# EAGLE library part XIO3130ZHC (library Xio31307hc)
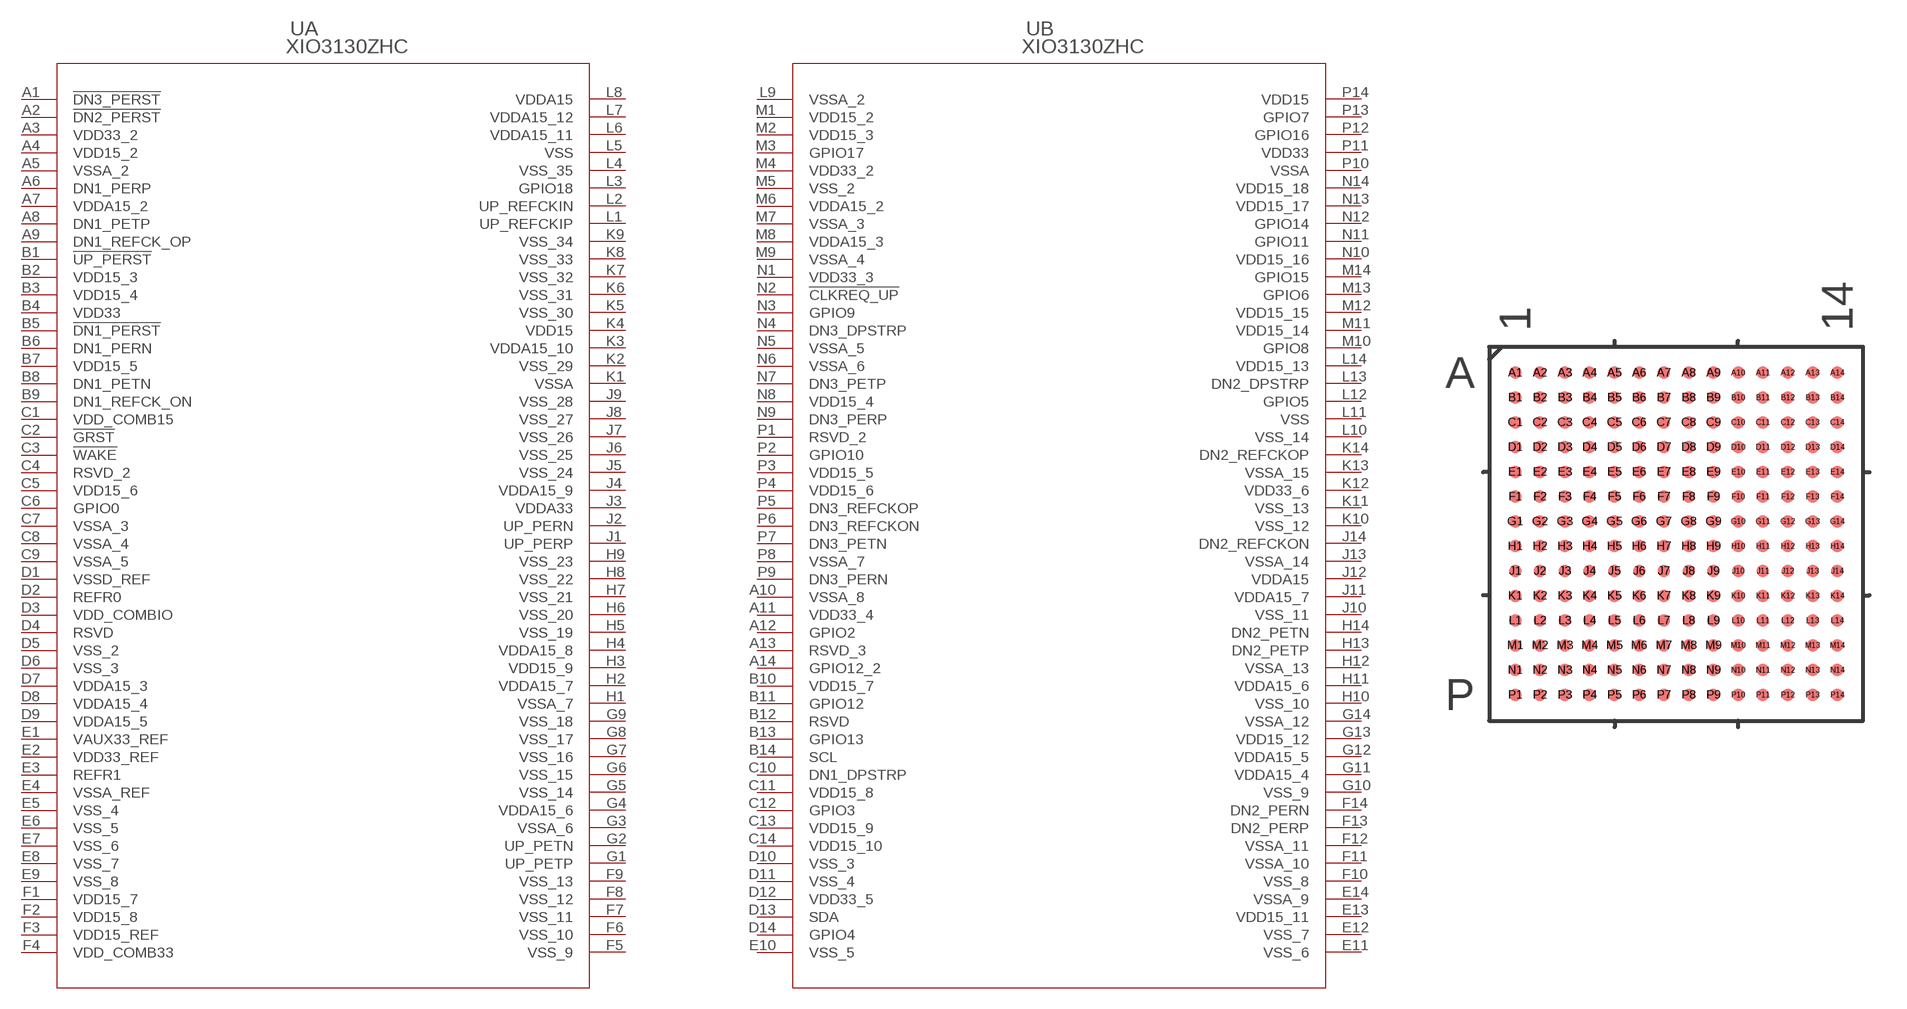
[diagram p0: symbol with the pads of ZHC196; footprint ZHC196]

Designator prefix U; gates A=XIO3130_ZHC_196_A B=XIO3130_ZHC_196_B

## XIO3130ZHC (DATASHEET_URL: http://www.ti.com/lit/gpn/XIO3130; DESCRIPTION: x1 PCI Express 4-Port 4-Lane Packet Switch; FAMILY_NAME: PCIE SWITCH; GENERIC_PART_NUMBER: XIO3130; INDUSTRY_STD_PKG_TYPE: BGA MICROSTAR; MANUFACTURER: Texas Instruments; MANUFACTURER_PART_NUMBER: XIO3130ZHC; PACKAGE_DESIGNATOR: ZHC; PIN_COUNT: 196; VENDOR: Texas Instruments)  [ZHC196]
A1  A:!DN3_PERST  out
A2  A:!DN2_PERST  out
A3  A:VDD33_2  pwr
A4  A:VDD15_2  pwr
A5  A:VSSA_2  pwr
A6  A:DN1_PERP  pas
A7  A:VDDA15_2  pwr
A8  A:DN1_PETP  pas
A9  A:DN1_REFCK_OP  out
A10  B:VSSA_8  pwr
A11  B:VDD33_4  pwr
A12  B:GPIO2
A13  B:RSVD_3  nc
A14  B:GPIO12_2
B1  A:!UP_PERST  in
B2  A:VDD15_3  pwr
B3  A:VDD15_4  pwr
B4  A:VDD33  pwr
B5  A:!DN1_PERST  out
B6  A:DN1_PERN  pas
B7  A:VDD15_5  pwr
B8  A:DN1_PETN  pas
B9  A:DN1_REFCK_ON  out
B10  B:VDD15_7  pwr
B11  B:GPIO12
B12  B:RSVD  nc
B13  B:GPIO13
B14  B:SCL  out
C1  A:VDD_COMB15  pwr
C2  A:!GRST  in
C3  A:!WAKE  pas
C4  A:RSVD_2  nc
C5  A:VDD15_6  pwr
C6  A:GPIO0
C7  A:VSSA_3  pwr
C8  A:VSSA_4  pwr
C9  A:VSSA_5  pwr
C10  B:DN1_DPSTRP  in
C11  B:VDD15_8  pwr
C12  B:GPIO3
C13  B:VDD15_9  pwr
C14  B:VDD15_10  pwr
D1  A:VSSD_REF  pwr
D2  A:REFR0  pas
D3  A:VDD_COMBIO  pwr
D4  A:RSVD  nc
D5  A:VSS_2  pwr
D6  A:VSS_3  pwr
D7  A:VDDA15_3  pwr
D8  A:VDDA15_4  pwr
D9  A:VDDA15_5  pwr
D10  B:VSS_3  pwr
D11  B:VSS_4  pwr
D12  B:VDD33_5  pwr
D13  B:SDA
D14  B:GPIO4
E1  A:VAUX33_REF  pwr
E2  A:VDD33_REF  pwr
E3  A:REFR1  pas
E4  A:VSSA_REF  pwr
E5  A:VSS_4  pwr
E6  A:VSS_5  pwr
E7  A:VSS_6  pwr
E8  A:VSS_7  pwr
E9  A:VSS_8  pwr
E10  B:VSS_5  pwr
E11  B:VSS_6  pwr
E12  B:VSS_7  pwr
E13  B:VDD15_11  pwr
E14  B:VSSA_9  pwr
F1  A:VDD15_7  pwr
F2  A:VDD15_8  pwr
F3  A:VDD15_REF  pwr
F4  A:VDD_COMB33  pwr
F5  A:VSS_9  pwr
F6  A:VSS_10  pwr
F7  A:VSS_11  pwr
F8  A:VSS_12  pwr
F9  A:VSS_13  pwr
F10  B:VSS_8  pwr
F11  B:VSSA_10  pwr
F12  B:VSSA_11  pwr
F13  B:DN2_PERP  pas
F14  B:DN2_PERN  pas
G1  A:UP_PETP  pas
G2  A:UP_PETN  pas
G3  A:VSSA_6  pwr
G4  A:VDDA15_6  pwr
G5  A:VSS_14  pwr
G6  A:VSS_15  pwr
G7  A:VSS_16  pwr
G8  A:VSS_17  pwr
G9  A:VSS_18  pwr
G10  B:VSS_9  pwr
G11  B:VDDA15_4  pwr
G12  B:VDDA15_5  pwr
G13  B:VDD15_12  pwr
G14  B:VSSA_12  pwr
H1  A:VSSA_7  pwr
H2  A:VDDA15_7  pwr
H3  A:VDD15_9  pwr
H4  A:VDDA15_8  pwr
H5  A:VSS_19  pwr
H6  A:VSS_20  pwr
H7  A:VSS_21  pwr
H8  A:VSS_22  pwr
H9  A:VSS_23  pwr
H10  B:VSS_10  pwr
H11  B:VDDA15_6  pwr
H12  B:VSSA_13  pwr
H13  B:DN2_PETP  pas
H14  B:DN2_PETN  pas
J1  A:UP_PERP  pas
J2  A:UP_PERN  pas
J3  A:VDDA33  pwr
J4  A:VDDA15_9  pwr
J5  A:VSS_24  pwr
J6  A:VSS_25  pwr
J7  A:VSS_26  pwr
J8  A:VSS_27  pwr
J9  A:VSS_28  pwr
J10  B:VSS_11  pwr
J11  B:VDDA15_7  pwr
J12  B:VDDA15  pwr
J13  B:VSSA_14  pwr
J14  B:DN2_REFCKON  out
K1  A:VSSA  pwr
K2  A:VSS_29  pwr
K3  A:VDDA15_10  pwr
K4  A:VDD15  pwr
K5  A:VSS_30  pwr
K6  A:VSS_31  pwr
K7  A:VSS_32  pwr
K8  A:VSS_33  pwr
K9  A:VSS_34  pwr
K10  B:VSS_12  pwr
K11  B:VSS_13  pwr
K12  B:VDD33_6  pwr
K13  B:VSSA_15  pwr
K14  B:DN2_REFCKOP  out
L1  A:UP_REFCKIP  in
L2  A:UP_REFCKIN  in
L3  A:GPIO18
L4  A:VSS_35  pwr
L5  A:VSS  pwr
L6  A:VDDA15_11  pwr
L7  A:VDDA15_12  pwr
L8  A:VDDA15  pwr
L9  B:VSSA_2  pwr
L10  B:VSS_14  pwr
L11  B:VSS  pwr
L12  B:GPIO5
L13  B:DN2_DPSTRP  in
L14  B:VDD15_13  pwr
M1  B:VDD15_2  pwr
M2  B:VDD15_3  pwr
M3  B:GPIO17
M4  B:VDD33_2  pwr
M5  B:VSS_2  pwr
M6  B:VDDA15_2  pwr
M7  B:VSSA_3  pwr
M8  B:VDDA15_3  pwr
M9  B:VSSA_4  pwr
M10  B:GPIO8
M11  B:VDD15_14  pwr
M12  B:VDD15_15  pwr
M13  B:GPIO6
M14  B:GPIO15
N1  B:VDD33_3  pwr
N2  B:!CLKREQ_UP  out
N3  B:GPIO9
N4  B:DN3_DPSTRP  in
N5  B:VSSA_5  pwr
N6  B:VSSA_6  pwr
N7  B:DN3_PETP  pas
N8  B:VDD15_4  pwr
N9  B:DN3_PERP  pas
N10  B:VDD15_16  pwr
N11  B:GPIO11
N12  B:GPIO14
N13  B:VDD15_17  pwr
N14  B:VDD15_18  pwr
P1  B:RSVD_2  nc
P2  B:GPIO10
P3  B:VDD15_5  pwr
P4  B:VDD15_6  pwr
P5  B:DN3_REFCKOP  out
P6  B:DN3_REFCKON  out
P7  B:DN3_PETN  pas
P8  B:VSSA_7  pwr
P9  B:DN3_PERN  pas
P10  B:VSSA  pwr
P11  B:VDD33  pwr
P12  B:GPIO16
P13  B:GPIO7
P14  B:VDD15  pwr

## Footprint ZHC196 (pad centres in mm)
smd 0.508 x 0.508: A1 -6.5,6.5; A2 -5.5,6.5; A3 -4.5,6.5; A4 -3.5,6.5; A5 -2.5,6.5; A6 -1.5,6.5; A7 -0.5,6.5; A8 0.5,6.5; A9 1.5,6.5; A10 2.5,6.5; A11 3.5,6.5; A12 4.5,6.5; A13 5.5,6.5; A14 6.5,6.5; B1 -6.5,5.5; B2 -5.5,5.5; B3 -4.5,5.5; B4 -3.5,5.5; B5 -2.5,5.5; B6 -1.5,5.5; B7 -0.5,5.5; B8 0.5,5.5; B9 1.5,5.5; B10 2.5,5.5; B11 3.5,5.5; B12 4.5,5.5; B13 5.5,5.5; B14 6.5,5.5; C1 -6.5,4.5; C2 -5.5,4.5; C3 -4.5,4.5; C4 -3.5,4.5; C5 -2.5,4.5; C6 -1.5,4.5; C7 -0.5,4.5; C8 0.5,4.5; C9 1.5,4.5; C10 2.5,4.5; C11 3.5,4.5; C12 4.5,4.5; C13 5.5,4.5; C14 6.5,4.5; D1 -6.5,3.5; D2 -5.5,3.5; D3 -4.5,3.5; D4 -3.5,3.5; D5 -2.5,3.5; D6 -1.5,3.5; D7 -0.5,3.5; D8 0.5,3.5; D9 1.5,3.5; D10 2.5,3.5; D11 3.5,3.5; D12 4.5,3.5; D13 5.5,3.5; D14 6.5,3.5; E1 -6.5,2.5; E2 -5.5,2.5; E3 -4.5,2.5; E4 -3.5,2.5; E5 -2.5,2.5; E6 -1.5,2.5; E7 -0.5,2.5; E8 0.5,2.5; E9 1.5,2.5; E10 2.5,2.5; E11 3.5,2.5; E12 4.5,2.5; E13 5.5,2.5; E14 6.5,2.5; F1 -6.5,1.5; F2 -5.5,1.5; F3 -4.5,1.5; F4 -3.5,1.5; F5 -2.5,1.5; F6 -1.5,1.5; F7 -0.5,1.5; F8 0.5,1.5; F9 1.5,1.5; F10 2.5,1.5; F11 3.5,1.5; F12 4.5,1.5; F13 5.5,1.5; F14 6.5,1.5; G1 -6.5,0.5; G2 -5.5,0.5; G3 -4.5,0.5; G4 -3.5,0.5; G5 -2.5,0.5; G6 -1.5,0.5; G7 -0.5,0.5; G8 0.5,0.5; G9 1.5,0.5; G10 2.5,0.5; G11 3.5,0.5; G12 4.5,0.5; G13 5.5,0.5; G14 6.5,0.5; H1 -6.5,-0.5; H2 -5.5,-0.5; H3 -4.5,-0.5; H4 -3.5,-0.5; H5 -2.5,-0.5; H6 -1.5,-0.5; H7 -0.5,-0.5; H8 0.5,-0.5; H9 1.5,-0.5; H10 2.5,-0.5; H11 3.5,-0.5; H12 4.5,-0.5; H13 5.5,-0.5; H14 6.5,-0.5; J1 -6.5,-1.5; J2 -5.5,-1.5; J3 -4.5,-1.5; J4 -3.5,-1.5; J5 -2.5,-1.5; J6 -1.5,-1.5; J7 -0.5,-1.5; J8 0.5,-1.5; J9 1.5,-1.5; J10 2.5,-1.5; J11 3.5,-1.5; J12 4.5,-1.5; J13 5.5,-1.5; J14 6.5,-1.5; K1 -6.5,-2.5; K2 -5.5,-2.5; K3 -4.5,-2.5; K4 -3.5,-2.5; K5 -2.5,-2.5; K6 -1.5,-2.5; K7 -0.5,-2.5; K8 0.5,-2.5; K9 1.5,-2.5; K10 2.5,-2.5; K11 3.5,-2.5; K12 4.5,-2.5; K13 5.5,-2.5; K14 6.5,-2.5; L1 -6.5,-3.5; L2 -5.5,-3.5; L3 -4.5,-3.5; L4 -3.5,-3.5; L5 -2.5,-3.5; L6 -1.5,-3.5; L7 -0.5,-3.5; L8 0.5,-3.5; L9 1.5,-3.5; L10 2.5,-3.5; L11 3.5,-3.5; L12 4.5,-3.5; L13 5.5,-3.5; L14 6.5,-3.5; M1 -6.5,-4.5; M2 -5.5,-4.5; M3 -4.5,-4.5; M4 -3.5,-4.5; M5 -2.5,-4.5; M6 -1.5,-4.5; M7 -0.5,-4.5; M8 0.5,-4.5; M9 1.5,-4.5; M10 2.5,-4.5; M11 3.5,-4.5; M12 4.5,-4.5; M13 5.5,-4.5; M14 6.5,-4.5; N1 -6.5,-5.5; N2 -5.5,-5.5; N3 -4.5,-5.5; N4 -3.5,-5.5; N5 -2.5,-5.5; N6 -1.5,-5.5; N7 -0.5,-5.5; N8 0.5,-5.5; N9 1.5,-5.5; N10 2.5,-5.5; N11 3.5,-5.5; N12 4.5,-5.5; N13 5.5,-5.5; N14 6.5,-5.5; P1 -6.5,-6.5; P2 -5.5,-6.5; P3 -4.5,-6.5; P4 -3.5,-6.5; P5 -2.5,-6.5; P6 -1.5,-6.5; P7 -0.5,-6.5; P8 0.5,-6.5; P9 1.5,-6.5; P10 2.5,-6.5; P11 3.5,-6.5; P12 4.5,-6.5; P13 5.5,-6.5; P14 6.5,-6.5